# Altium footprint library TE_2201778-1.PcbLib: 1 footprints
Each footprint in its own frame and in the unit in brackets; x right, y up, seen from the top. Pads: shape width x height; smd on the part's side, far side on the other; paste and mask are expansions set on the pad; w line width, h text height; cw(c..) or ccw(c..) is an arc to the next point about the centre after c.
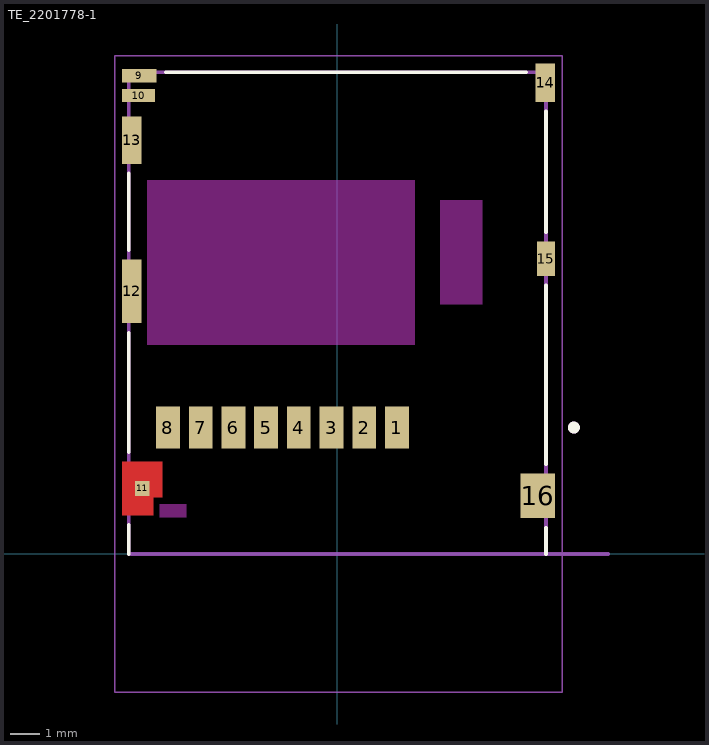
[diagram p0: the footprint, top view; thin cyan lines are the x and y axes]

## TE_2201778-1 [mm]
height 1.75
pads (16):
  rect 0.8x1.4 smd mask+0.04: 1(2.005,4.25) 2(0.905,4.25) 3(-0.195,4.25) 4(-1.295,4.25) 5(-2.395,4.25) 6(-3.495,4.25) 7(-4.595,4.25) 8(-5.695,4.25)
  rect 1.15x0.45 smd: 9(-6.66,16.075)
  rect 1.1x0.45 smd: 10(-6.685,15.415)
  rect 0.5x0.5 smd paste-1 mask+0: 11(-6.56,2.2)
  rect 0.65x2.14 smd: 12(-6.91,8.83)
  rect 0.65x1.6 smd: 13(-6.91,13.91)
  rect 0.65x1.3 smd: 14(6.99,15.85)
  rect 0.6x1.15 smd: 15(7.015,9.925)
  rect 1.16x1.5 smd: 16(6.735,1.95)
Top Layer:
  region: -5.885,1.9 -6.185,1.9 -6.185,1.3 -7.235,1.3 -7.235,3.1 -5.885,3.1
Top Layer keep-out:
  region: 4.865,8.4 3.465,8.4 3.465,11.9 4.865,11.9
  region: 2.605,7.04 -6.395,7.04 -6.395,12.57 2.605,12.57
  region: -5.08,1.225 -5.969,1.225 -5.969,1.675 -5.08,1.675
Top Overlay:
  circle w0.2: c7.955,4.25 r0.1
  lines w0.127: -7.015,0 -7.015,0.98 ; -7.015,3.42 -7.015,7.44 ; -7.015,10.22 -7.015,12.79 ; -5.765,16.2 6.345,16.2 ; 7.015,0 7.015,0.88 ; 7.015,3.02 7.015,9.03 ; 7.015,10.82 7.015,14.88
Top Paste:
  region: -5.885,1.9 -6.185,1.9 -6.185,1.3 -7.235,1.3 -7.235,3.1 -5.885,3.1
Top Solder:
  region: -5.785,1.8 -6.085,1.8 -6.085,1.2 -7.335,1.2 -7.335,3.2 -5.785,3.2
Mechanical 13:
  circle w0.2: c7.955,4.25 r0.1
  lines w0.127: 9.1,0 7.015,0 ; 7.015,0 -7.015,0 -7.015,16.2 7.015,16.2 7.015,0
  text "PCB EDGE" at 7.7,0.2 h1
Mechanical 15:
  lines w0.05: -7.485,-4.65 -7.485,16.75 7.565,16.75 7.565,-4.65 -7.485,-4.65
3D body "step_temp.STEP": height 1.75, standoff -0.05, extent -7.02,0 7.01,16.2